# Altium footprint library QFP80-12x12.PcbLib: 1 footprints
Each footprint in its own frame and in the unit in brackets; x right, y up, seen from the top. Pads: shape width x height; smd on the part's side, far side on the other; paste and mask are expansions set on the pad; w line width, h text height; cw(c..) or ccw(c..) is an arc to the next point about the centre after c.
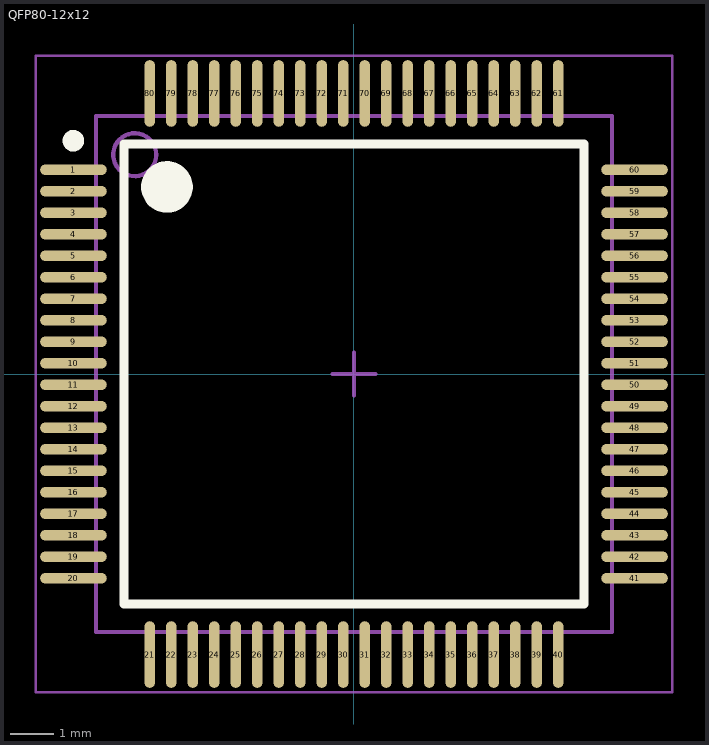
[diagram p0: the footprint, top view; thin cyan lines are the x and y axes]

## QFP80-12x12 [mm] "Thin QFP, 80-Leads, Body 12x12mm, Pitch 0.5mm, IPC High Density"
height 1.6
pads (80):
  oval 1.55x0.25 smd: 1(-6.525,4.75) 2(-6.525,4.25) 3(-6.525,3.75) 4(-6.525,3.25) 5(-6.525,2.75) 6(-6.525,2.25) 7(-6.525,1.75) 8(-6.525,1.25) 9(-6.525,0.75) 10(-6.525,0.25) 11(-6.525,-0.25) 12(-6.525,-0.75) 13(-6.525,-1.25) 14(-6.525,-1.75) 15(-6.525,-2.25) 16(-6.525,-2.75) 17(-6.525,-3.25) 18(-6.525,-3.75) 19(-6.525,-4.25) 20(-6.525,-4.75) 41(6.525,-4.75) 42(6.525,-4.25) 43(6.525,-3.75) 44(6.525,-3.25) 45(6.525,-2.75) 46(6.525,-2.25) 47(6.525,-1.75) 48(6.525,-1.25) 49(6.525,-0.75) 50(6.525,-0.25) 51(6.525,0.25) 52(6.525,0.75) 53(6.525,1.25) 54(6.525,1.75) 55(6.525,2.25) 56(6.525,2.75) 57(6.525,3.25) 58(6.525,3.75) 59(6.525,4.25) 60(6.525,4.75)
  oval 0.25x1.55 smd: 21(-4.75,-6.525) 22(-4.25,-6.525) 23(-3.75,-6.525) 24(-3.25,-6.525) 25(-2.75,-6.525) 26(-2.25,-6.525) 27(-1.75,-6.525) 28(-1.25,-6.525) 29(-0.75,-6.525) 30(-0.25,-6.525) 31(0.25,-6.525) 32(0.75,-6.525) 33(1.25,-6.525) 34(1.75,-6.525) 35(2.25,-6.525) 36(2.75,-6.525) 37(3.25,-6.525) 38(3.75,-6.525) 39(4.25,-6.525) 40(4.75,-6.525) 61(4.75,6.525) 62(4.25,6.525) 63(3.75,6.525) 64(3.25,6.525) 65(2.75,6.525) 66(2.25,6.525) 67(1.75,6.525) 68(1.25,6.525) 69(0.75,6.525) 70(0.25,6.525) 71(-0.25,6.525) 72(-0.75,6.525) 73(-1.25,6.525) 74(-1.75,6.525) 75(-2.25,6.525) 76(-2.75,6.525) 77(-3.25,6.525) 78(-3.75,6.525) 79(-4.25,6.525) 80(-4.75,6.525)
Top Overlay:
  circle w0.25: c-6.525,5.425 r0.125
  circle w0.6: c-4.35,4.35 r0.3
  lines w0.2: -5.35,-5.35 -5.35,5.35 5.35,5.35 5.35,-5.35 -5.35,-5.35
Mechanical 13:
  circle w0.1: c-5.1,5.1 r0.5
  lines w0.1: -6,-6 -6,6 6,6 6,-6 -6,-6
Mechanical 15:
  lines w0.05: -7.4,-7.4 -7.4,7.4 7.4,7.4 7.4,-7.4 -7.4,-7.4
  lines w0.1: -0.5,0 0.5,0 ; 0,-0.5 0,0.5
3D body "User Library-QFP50P1400X1400X160-80N.STEP": height 1.6, standoff 0, extent -7.075,-7.112 7.125,7.088